# Altium schematic symbol library jlcpcb_2025_04_ferrites_extended_0805.schlib: 546 symbols (part 7 of 10)
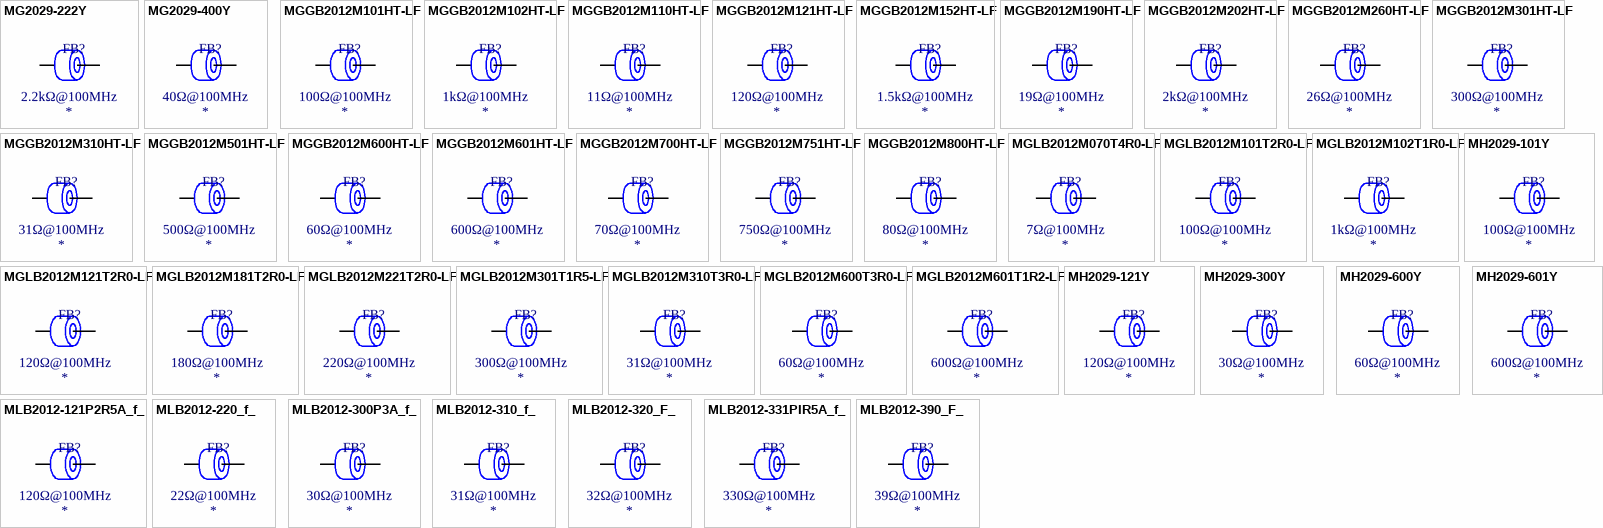
[diagram p19: symbols MG2029-222Y to MLB2012-390_F_]

## MGGB2012M700HT-LF
designator FB?  Impedance @ Frequency: 70Ω@100MHz
Ferrite, 70Ω@100MHz, ±25%, 0.08Ω, 1000mA, SMD 0805; Manufacturer: microgate; Manufacturer Part Number: MGGB2012M700HT-LF; Package Size: 0805; JLCPCB Basic Part: No; JLCPCB Part Number: C281171; Supplier 1: LCSC; Category: Ferrite Beads; Supplier Part Number 1: C281171; Tolerance: ±25%; Rated Current: 1000mA; DC Resistance: 0.08Ω; RoHS: Yes; ComponentLink1Description: Datasheet; ComponentLink1URL: https://wmsc.lcsc.com/wmsc/upload/file/pdf/v2/lcsc/2304140030_microgate-MGGB2012M700HT-LF_C281171.pdf; ComponentLink2Description: JLCPCB Part URL; ComponentLink2URL: https://jlcpcb.com/partdetail/C281171; ComponentLink3Description: LCSC Part URL; ComponentLink3URL: https://lcsc.com/product-detail/Ferrite-Beads_microgate-microgate-MGGB2012M700HT-LF_C281171.html
footprint FB-0805 (0805 (2012M) Ferrite)
pins: 1, 2

## MGGB2012M751HT-LF
designator FB?  Impedance @ Frequency: 750Ω@100MHz
Ferrite, 750Ω@100MHz, ±25%, 0.35Ω, 300mA, SMD 0805; Manufacturer: microgate; Manufacturer Part Number: MGGB2012M751HT-LF; Package Size: 0805; JLCPCB Basic Part: No; JLCPCB Part Number: C281172; Supplier 1: LCSC; Category: Ferrite Beads; Supplier Part Number 1: C281172; Tolerance: ±25%; Rated Current: 300mA; DC Resistance: 0.35Ω; RoHS: Yes; ComponentLink1Description: Datasheet; ComponentLink1URL: https://wmsc.lcsc.com/wmsc/upload/file/pdf/v2/lcsc/2304140030_microgate-MGGB2012M751HT-LF_C281172.pdf; ComponentLink2Description: JLCPCB Part URL; ComponentLink2URL: https://jlcpcb.com/partdetail/C281172; ComponentLink3Description: LCSC Part URL; ComponentLink3URL: https://lcsc.com/product-detail/Ferrite-Beads_microgate-microgate-MGGB2012M751HT-LF_C281172.html
footprint FB-0805 (0805 (2012M) Ferrite)
pins: 1, 2

## MGGB2012M800HT-LF
designator FB?  Impedance @ Frequency: 80Ω@100MHz
Ferrite, 80Ω@100MHz, ±25%, 0.1Ω, 1000mA, SMD 0805; Manufacturer: microgate; Manufacturer Part Number: MGGB2012M800HT-LF; Package Size: 0805; JLCPCB Basic Part: No; JLCPCB Part Number: C281173; Supplier 1: LCSC; Category: Ferrite Beads; Supplier Part Number 1: C281173; Tolerance: ±25%; Rated Current: 1000mA; DC Resistance: 0.1Ω; RoHS: Yes; ComponentLink1Description: Datasheet; ComponentLink1URL: https://wmsc.lcsc.com/wmsc/upload/file/pdf/v2/lcsc/2304140030_microgate-MGGB2012M800HT-LF_C281173.pdf; ComponentLink2Description: JLCPCB Part URL; ComponentLink2URL: https://jlcpcb.com/partdetail/C281173; ComponentLink3Description: LCSC Part URL; ComponentLink3URL: https://lcsc.com/product-detail/Ferrite-Beads_microgate-microgate-MGGB2012M800HT-LF_C281173.html
footprint FB-0805 (0805 (2012M) Ferrite)
pins: 1, 2

## MGLB2012M070T4R0-LF
designator FB?  Impedance @ Frequency: 7Ω@100MHz
Ferrite, 7Ω@100MHz, ±25%, 20mΩ, 4A, SMD 0805; Manufacturer: microgate; Manufacturer Part Number: MGLB2012M070T4R0-LF; Package Size: 0805; JLCPCB Basic Part: No; JLCPCB Part Number: C281210; Supplier 1: LCSC; Category: Ferrite Beads; Supplier Part Number 1: C281210; Tolerance: ±25%; Rated Current: 4A; DC Resistance: 20mΩ; RoHS: Yes; ComponentLink1Description: Datasheet; ComponentLink1URL: https://wmsc.lcsc.com/wmsc/upload/file/pdf/v2/lcsc/2304140030_microgate-MGLB2012M070T4R0-LF_C281210.pdf; ComponentLink2Description: JLCPCB Part URL; ComponentLink2URL: https://jlcpcb.com/partdetail/C281210; ComponentLink3Description: LCSC Part URL; ComponentLink3URL: https://lcsc.com/product-detail/Ferrite-Beads_microgate-microgate-MGLB2012M070T4R0-LF_C281210.html
footprint FB-0805 (0805 (2012M) Ferrite)
pins: 1, 2

## MGLB2012M101T2R0-LF
designator FB?  Impedance @ Frequency: 100Ω@100MHz
Ferrite, 100Ω@100MHz, ±25%, 80mΩ, 2A, SMD 0805; Manufacturer: microgate; Manufacturer Part Number: MGLB2012M101T2R0-LF; Package Size: 0805; JLCPCB Basic Part: No; JLCPCB Part Number: C281211; Supplier 1: LCSC; Category: Ferrite Beads; Supplier Part Number 1: C281211; Tolerance: ±25%; Rated Current: 2A; DC Resistance: 80mΩ; RoHS: Yes; ComponentLink1Description: Datasheet; ComponentLink1URL: https://wmsc.lcsc.com/wmsc/upload/file/pdf/v2/lcsc/2304140030_microgate-MGLB2012M101T2R0-LF_C281211.pdf; ComponentLink2Description: JLCPCB Part URL; ComponentLink2URL: https://jlcpcb.com/partdetail/C281211; ComponentLink3Description: LCSC Part URL; ComponentLink3URL: https://lcsc.com/product-detail/Ferrite-Beads_microgate-microgate-MGLB2012M101T2R0-LF_C281211.html
footprint FB-0805 (0805 (2012M) Ferrite)
pins: 1, 2

## MGLB2012M102T1R0-LF
designator FB?  Impedance @ Frequency: 1kΩ@100MHz
Ferrite, 1kΩ@100MHz, ±25%, 300mΩ, 1A, SMD 0805; Manufacturer: microgate; Manufacturer Part Number: MGLB2012M102T1R0-LF; Package Size: 0805; JLCPCB Basic Part: No; JLCPCB Part Number: C281212; Supplier 1: LCSC; Category: Ferrite Beads; Supplier Part Number 1: C281212; Tolerance: ±25%; Rated Current: 1A; DC Resistance: 300mΩ; RoHS: Yes; ComponentLink1Description: Datasheet; ComponentLink1URL: https://wmsc.lcsc.com/wmsc/upload/file/pdf/v2/lcsc/2304140030_microgate-MGLB2012M102T1R0-LF_C281212.pdf; ComponentLink2Description: JLCPCB Part URL; ComponentLink2URL: https://jlcpcb.com/partdetail/C281212; ComponentLink3Description: LCSC Part URL; ComponentLink3URL: https://lcsc.com/product-detail/Ferrite-Beads_microgate-microgate-MGLB2012M102T1R0-LF_C281212.html
footprint FB-0805 (0805 (2012M) Ferrite)
pins: 1, 2

## MGLB2012M121T2R0-LF
designator FB?  Impedance @ Frequency: 120Ω@100MHz
Ferrite, 120Ω@100MHz, ±25%, 100mΩ, 2A, SMD 0805; Manufacturer: microgate; Manufacturer Part Number: MGLB2012M121T2R0-LF; Package Size: 0805; JLCPCB Basic Part: No; JLCPCB Part Number: C281214; Supplier 1: LCSC; Category: Ferrite Beads; Supplier Part Number 1: C281214; Tolerance: ±25%; Rated Current: 2A; DC Resistance: 100mΩ; RoHS: Yes; ComponentLink1Description: Datasheet; ComponentLink1URL: https://wmsc.lcsc.com/wmsc/upload/file/pdf/v2/lcsc/2304140030_microgate-MGLB2012M121T2R0-LF_C281214.pdf; ComponentLink2Description: JLCPCB Part URL; ComponentLink2URL: https://jlcpcb.com/partdetail/C281214; ComponentLink3Description: LCSC Part URL; ComponentLink3URL: https://lcsc.com/product-detail/Ferrite-Beads_microgate-microgate-MGLB2012M121T2R0-LF_C281214.html
footprint FB-0805 (0805 (2012M) Ferrite)
pins: 1, 2

## MGLB2012M181T2R0-LF
designator FB?  Impedance @ Frequency: 180Ω@100MHz
Ferrite, 180Ω@100MHz, ±25%, 150mΩ, 2A, SMD 0805; Manufacturer: microgate; Manufacturer Part Number: MGLB2012M181T2R0-LF; Package Size: 0805; JLCPCB Basic Part: No; JLCPCB Part Number: C281215; Supplier 1: LCSC; Category: Ferrite Beads; Supplier Part Number 1: C281215; Tolerance: ±25%; Rated Current: 2A; DC Resistance: 150mΩ; RoHS: Yes; ComponentLink1Description: Datasheet; ComponentLink1URL: https://wmsc.lcsc.com/wmsc/upload/file/pdf/v2/lcsc/2304140030_microgate-MGLB2012M181T2R0-LF_C281215.pdf; ComponentLink2Description: JLCPCB Part URL; ComponentLink2URL: https://jlcpcb.com/partdetail/C281215; ComponentLink3Description: LCSC Part URL; ComponentLink3URL: https://lcsc.com/product-detail/Ferrite-Beads_microgate-microgate-MGLB2012M181T2R0-LF_C281215.html
footprint FB-0805 (0805 (2012M) Ferrite)
pins: 1, 2

## MGLB2012M221T2R0-LF
designator FB?  Impedance @ Frequency: 220Ω@100MHz
Ferrite, 220Ω@100MHz, ±25%, 170mΩ, 2A, SMD 0805; Manufacturer: microgate; Manufacturer Part Number: MGLB2012M221T2R0-LF; Package Size: 0805; JLCPCB Basic Part: No; JLCPCB Part Number: C281216; Supplier 1: LCSC; Category: Ferrite Beads; Supplier Part Number 1: C281216; Tolerance: ±25%; Rated Current: 2A; DC Resistance: 170mΩ; RoHS: Yes; ComponentLink1Description: Datasheet; ComponentLink1URL: https://wmsc.lcsc.com/wmsc/upload/file/pdf/v2/lcsc/2304140030_microgate-MGLB2012M221T2R0-LF_C281216.pdf; ComponentLink2Description: JLCPCB Part URL; ComponentLink2URL: https://jlcpcb.com/partdetail/C281216; ComponentLink3Description: LCSC Part URL; ComponentLink3URL: https://lcsc.com/product-detail/Ferrite-Beads_microgate-microgate-MGLB2012M221T2R0-LF_C281216.html
footprint FB-0805 (0805 (2012M) Ferrite)
pins: 1, 2

## MGLB2012M301T1R5-LF
designator FB?  Impedance @ Frequency: 300Ω@100MHz
Ferrite, 300Ω@100MHz, ±25%, 200mΩ, 1.5A, SMD 0805; Manufacturer: microgate; Manufacturer Part Number: MGLB2012M301T1R5-LF; Package Size: 0805; JLCPCB Basic Part: No; JLCPCB Part Number: C281217; Supplier 1: LCSC; Category: Ferrite Beads; Supplier Part Number 1: C281217; Tolerance: ±25%; Rated Current: 1.5A; DC Resistance: 200mΩ; RoHS: Yes; ComponentLink1Description: Datasheet; ComponentLink1URL: https://wmsc.lcsc.com/wmsc/upload/file/pdf/v2/lcsc/2304140030_microgate-MGLB2012M301T1R5-LF_C281217.pdf; ComponentLink2Description: JLCPCB Part URL; ComponentLink2URL: https://jlcpcb.com/partdetail/C281217; ComponentLink3Description: LCSC Part URL; ComponentLink3URL: https://lcsc.com/product-detail/Ferrite-Beads_microgate-microgate-MGLB2012M301T1R5-LF_C281217.html
footprint FB-0805 (0805 (2012M) Ferrite)
pins: 1, 2

## MGLB2012M310T3R0-LF
designator FB?  Impedance @ Frequency: 31Ω@100MHz
Ferrite, 31Ω@100MHz, ±25%, 30mΩ, 3A, SMD 0805; Manufacturer: microgate; Manufacturer Part Number: MGLB2012M310T3R0-LF; Package Size: 0805; JLCPCB Basic Part: No; JLCPCB Part Number: C281218; Supplier 1: LCSC; Category: Ferrite Beads; Supplier Part Number 1: C281218; Tolerance: ±25%; Rated Current: 3A; DC Resistance: 30mΩ; RoHS: Yes; ComponentLink1Description: Datasheet; ComponentLink1URL: https://wmsc.lcsc.com/wmsc/upload/file/pdf/v2/lcsc/2304140030_microgate-MGLB2012M310T3R0-LF_C281218.pdf; ComponentLink2Description: JLCPCB Part URL; ComponentLink2URL: https://jlcpcb.com/partdetail/C281218; ComponentLink3Description: LCSC Part URL; ComponentLink3URL: https://lcsc.com/product-detail/Ferrite-Beads_microgate-microgate-MGLB2012M310T3R0-LF_C281218.html
footprint FB-0805 (0805 (2012M) Ferrite)
pins: 1, 2

## MGLB2012M600T3R0-LF
designator FB?  Impedance @ Frequency: 60Ω@100MHz
Ferrite, 60Ω@100MHz, ±25%, 50mΩ, 3A, SMD 0805; Manufacturer: microgate; Manufacturer Part Number: MGLB2012M600T3R0-LF; Package Size: 0805; JLCPCB Basic Part: No; JLCPCB Part Number: C281219; Supplier 1: LCSC; Category: Ferrite Beads; Supplier Part Number 1: C281219; Tolerance: ±25%; Rated Current: 3A; DC Resistance: 50mΩ; RoHS: Yes; ComponentLink1Description: Datasheet; ComponentLink1URL: https://wmsc.lcsc.com/wmsc/upload/file/pdf/v2/lcsc/2304140030_microgate-MGLB2012M600T3R0-LF_C281219.pdf; ComponentLink2Description: JLCPCB Part URL; ComponentLink2URL: https://jlcpcb.com/partdetail/C281219; ComponentLink3Description: LCSC Part URL; ComponentLink3URL: https://lcsc.com/product-detail/Ferrite-Beads_microgate-microgate-MGLB2012M600T3R0-LF_C281219.html
footprint FB-0805 (0805 (2012M) Ferrite)
pins: 1, 2

## MGLB2012M601T1R2-LF
designator FB?  Impedance @ Frequency: 600Ω@100MHz
Ferrite, 600Ω@100MHz, ±25%, 250mΩ, 1.2A, SMD 0805; Manufacturer: microgate; Manufacturer Part Number: MGLB2012M601T1R2-LF; Package Size: 0805; JLCPCB Basic Part: No; JLCPCB Part Number: C281220; Supplier 1: LCSC; Category: Ferrite Beads; Supplier Part Number 1: C281220; Tolerance: ±25%; Rated Current: 1.2A; DC Resistance: 250mΩ; RoHS: Yes; ComponentLink1Description: Datasheet; ComponentLink1URL: https://wmsc.lcsc.com/wmsc/upload/file/pdf/v2/lcsc/2304140030_microgate-MGLB2012M601T1R2-LF_C281220.pdf; ComponentLink2Description: JLCPCB Part URL; ComponentLink2URL: https://jlcpcb.com/partdetail/C281220; ComponentLink3Description: LCSC Part URL; ComponentLink3URL: https://lcsc.com/product-detail/Ferrite-Beads_microgate-microgate-MGLB2012M601T1R2-LF_C281220.html
footprint FB-0805 (0805 (2012M) Ferrite)
pins: 1, 2

## MH2029-101Y
designator FB?  Impedance @ Frequency: 100Ω@100MHz
Ferrite, 100Ω@100MHz, ±25%, 100mΩ, 2A, SMD 0805; Manufacturer: BOURNS; Manufacturer Part Number: MH2029-101Y; Package Size: 0805; JLCPCB Basic Part: No; JLCPCB Part Number: C1533840; Supplier 1: LCSC; Category: Ferrite Beads; Supplier Part Number 1: C1533840; Tolerance: ±25%; Rated Current: 2A; DC Resistance: 100mΩ; RoHS: Yes; ComponentLink1Description: Datasheet; ComponentLink1URL: https://wmsc.lcsc.com/wmsc/upload/file/pdf/v2/lcsc/2304140030_BOURNS-MH2029-101Y_C1533840.pdf; ComponentLink2Description: JLCPCB Part URL; ComponentLink2URL: https://jlcpcb.com/partdetail/C1533840; ComponentLink3Description: LCSC Part URL; ComponentLink3URL: https://lcsc.com/product-detail/Ferrite-Beads_BOURNS-BOURNS-MH2029-101Y_C1533840.html
footprint FB-0805 (0805 (2012M) Ferrite)
pins: 1, 2

## MH2029-121Y
designator FB?  Impedance @ Frequency: 120Ω@100MHz
Ferrite, 120Ω@100MHz, ±25%, 100mΩ, 2A, SMD 0805; Manufacturer: BOURNS; Manufacturer Part Number: MH2029-121Y; Package Size: 0805; JLCPCB Basic Part: No; JLCPCB Part Number: C2661483; Supplier 1: LCSC; Category: Ferrite Beads; Supplier Part Number 1: C2661483; Tolerance: ±25%; Rated Current: 2A; DC Resistance: 100mΩ; RoHS: Yes; ComponentLink1Description: Datasheet; ComponentLink1URL: https://wmsc.lcsc.com/wmsc/upload/file/pdf/v2/lcsc/2304140030_BOURNS-MH2029-121Y_C2661483.pdf; ComponentLink2Description: JLCPCB Part URL; ComponentLink2URL: https://jlcpcb.com/partdetail/C2661483; ComponentLink3Description: LCSC Part URL; ComponentLink3URL: https://lcsc.com/product-detail/Ferrite-Beads_BOURNS-BOURNS-MH2029-121Y_C2661483.html
footprint FB-0805 (0805 (2012M) Ferrite)
pins: 1, 2

## MH2029-300Y
designator FB?  Impedance @ Frequency: 30Ω@100MHz
Ferrite, 30Ω@100MHz, ±25%, 25mΩ, 3A, SMD 0805; Manufacturer: BOURNS; Manufacturer Part Number: MH2029-300Y; Package Size: 0805; JLCPCB Basic Part: No; JLCPCB Part Number: C840593; Supplier 1: LCSC; Category: Ferrite Beads; Supplier Part Number 1: C840593; Tolerance: ±25%; Rated Current: 3A; DC Resistance: 25mΩ; RoHS: Yes; ComponentLink1Description: Datasheet; ComponentLink1URL: https://wmsc.lcsc.com/wmsc/upload/file/pdf/v2/lcsc/2304140030_BOURNS-MH2029-300Y_C840593.pdf; ComponentLink2Description: JLCPCB Part URL; ComponentLink2URL: https://jlcpcb.com/partdetail/C840593; ComponentLink3Description: LCSC Part URL; ComponentLink3URL: https://lcsc.com/product-detail/Ferrite-Beads_BOURNS-BOURNS-MH2029-300Y_C840593.html
footprint FB-0805 (0805 (2012M) Ferrite)
pins: 1, 2

## MH2029-600Y
designator FB?  Impedance @ Frequency: 60Ω@100MHz
Ferrite, 60Ω@100MHz, ±25%, 20mΩ, 5A, SMD 0805; Manufacturer: BOURNS; Manufacturer Part Number: MH2029-600Y; Package Size: 0805; JLCPCB Basic Part: No; JLCPCB Part Number: C780182; Supplier 1: LCSC; Category: Ferrite Beads; Supplier Part Number 1: C780182; Tolerance: ±25%; Rated Current: 5A; DC Resistance: 20mΩ; RoHS: Yes; ComponentLink1Description: Datasheet; ComponentLink1URL: https://wmsc.lcsc.com/wmsc/upload/file/pdf/v2/lcsc/2304140030_BOURNS-MH2029-600Y_C780182.pdf; ComponentLink2Description: JLCPCB Part URL; ComponentLink2URL: https://jlcpcb.com/partdetail/C780182; ComponentLink3Description: LCSC Part URL; ComponentLink3URL: https://lcsc.com/product-detail/Ferrite-Beads_BOURNS-BOURNS-MH2029-600Y_C780182.html
footprint FB-0805 (0805 (2012M) Ferrite)
pins: 1, 2

## MH2029-601Y
designator FB?  Impedance @ Frequency: 600Ω@100MHz
Ferrite, 600Ω@100MHz, ±25%, 200mΩ, 1A, SMD 0805; Manufacturer: BOURNS; Manufacturer Part Number: MH2029-601Y; Package Size: 0805; JLCPCB Basic Part: No; JLCPCB Part Number: C840592; Supplier 1: LCSC; Category: Ferrite Beads; Supplier Part Number 1: C840592; Tolerance: ±25%; Rated Current: 1A; DC Resistance: 200mΩ; RoHS: Yes; ComponentLink1Description: Datasheet; ComponentLink1URL: https://wmsc.lcsc.com/wmsc/upload/file/pdf/v2/lcsc/2304140030_BOURNS-MH2029-601Y_C840592.pdf; ComponentLink2Description: JLCPCB Part URL; ComponentLink2URL: https://jlcpcb.com/partdetail/C840592; ComponentLink3Description: LCSC Part URL; ComponentLink3URL: https://lcsc.com/product-detail/Ferrite-Beads_BOURNS-BOURNS-MH2029-601Y_C840592.html
footprint FB-0805 (0805 (2012M) Ferrite)
pins: 1, 2

## MLB2012-121P2R5A_f_
designator FB?  Impedance @ Frequency: 120Ω@100MHz
Ferrite, 120Ω@100MHz, ±25%, 100mΩ, 2.5A, SMD 0805; Manufacturer: Meled; Manufacturer Part Number: MLB2012-121P2R5A(f); Package Size: 0805; JLCPCB Basic Part: No; JLCPCB Part Number: C52557; Supplier 1: LCSC; Category: Ferrite Beads; Supplier Part Number 1: C52557; Tolerance: ±25%; Rated Current: 2.5A; DC Resistance: 100mΩ; RoHS: Yes; ComponentLink1Description: Datasheet; ComponentLink1URL: https://wmsc.lcsc.com/wmsc/upload/file/pdf/v2/lcsc/1809212031_MetalLions-MLB2012-121P2R5A-f_C52557.pdf; ComponentLink2Description: JLCPCB Part URL; ComponentLink2URL: https://jlcpcb.com/partdetail/C52557; ComponentLink3Description: LCSC Part URL; ComponentLink3URL: https://lcsc.com/product-detail/Ferrite-Beads_Meled-Meled-MLB2012-121P2R5Af_C52557.html
footprint FB-0805 (0805 (2012M) Ferrite)
pins: 1, 2

## MLB2012-220_f_
designator FB?  Impedance @ Frequency: 22Ω@100MHz
Ferrite, 22Ω@100MHz, ±25%, 50mΩ, 500mA, SMD 0805; Manufacturer: Meled; Manufacturer Part Number: MLB2012-220(f); Package Size: 0805; JLCPCB Basic Part: No; JLCPCB Part Number: C48148; Supplier 1: LCSC; Category: Ferrite Beads; Supplier Part Number 1: C48148; Tolerance: ±25%; Rated Current: 500mA; DC Resistance: 50mΩ; RoHS: Yes; ComponentLink1Description: Datasheet; ComponentLink1URL: https://wmsc.lcsc.com/wmsc/upload/file/pdf/v2/lcsc/1809171311_MetalLions-MLB2012-220-f_C48148.pdf; ComponentLink2Description: JLCPCB Part URL; ComponentLink2URL: https://jlcpcb.com/partdetail/C48148; ComponentLink3Description: LCSC Part URL; ComponentLink3URL: https://lcsc.com/product-detail/Ferrite-Beads_Meled-Meled-MLB2012-220f_C48148.html
footprint FB-0805 (0805 (2012M) Ferrite)
pins: 1, 2

## MLB2012-300P3A_f_
designator FB?  Impedance @ Frequency: 30Ω@100MHz
Ferrite, 30Ω@100MHz, ±25%, 20mΩ, 3A, SMD 0805; Manufacturer: Meled; Manufacturer Part Number: MLB2012-300P3A(f); Package Size: 0805; JLCPCB Basic Part: No; JLCPCB Part Number: C50503; Supplier 1: LCSC; Category: Ferrite Beads; Supplier Part Number 1: C50503; Tolerance: ±25%; Rated Current: 3A; DC Resistance: 20mΩ; RoHS: Yes; ComponentLink1Description: Datasheet; ComponentLink1URL: https://wmsc.lcsc.com/wmsc/upload/file/pdf/v2/lcsc/1809192323_MetalLions-MLB2012-300P3A-f_C50503.pdf; ComponentLink2Description: JLCPCB Part URL; ComponentLink2URL: https://jlcpcb.com/partdetail/C50503; ComponentLink3Description: LCSC Part URL; ComponentLink3URL: https://lcsc.com/product-detail/Ferrite-Beads_Meled-Meled-MLB2012-300P3Af_C50503.html
footprint FB-0805 (0805 (2012M) Ferrite)
pins: 1, 2

## MLB2012-310_f_
designator FB?  Impedance @ Frequency: 31Ω@100MHz
Ferrite, 31Ω@100MHz, ±25%, 50mΩ, 500mA, SMD 0805; Manufacturer: Meled; Manufacturer Part Number: MLB2012-310（f）; Package Size: 0805; JLCPCB Basic Part: No; JLCPCB Part Number: C40848; Supplier 1: LCSC; Category: Ferrite Beads; Supplier Part Number 1: C40848; Tolerance: ±25%; Rated Current: 500mA; DC Resistance: 50mΩ; RoHS: Yes; ComponentLink1Description: Datasheet; ComponentLink1URL: https://wmsc.lcsc.com/wmsc/upload/file/pdf/v2/lcsc/1809192011_MetalLions-MLB2012-310-f-_C40848.pdf; ComponentLink2Description: JLCPCB Part URL; ComponentLink2URL: https://jlcpcb.com/partdetail/C40848; ComponentLink3Description: LCSC Part URL; ComponentLink3URL: https://lcsc.com/product-detail/Ferrite-Beads_Meled-Meled-MLB2012-310%EF%BC%88f%EF%BC%89_C40848.html
footprint FB-0805 (0805 (2012M) Ferrite)
pins: 1, 2

## MLB2012-320_F_
designator FB?  Impedance @ Frequency: 32Ω@100MHz
Ferrite, 32Ω@100MHz, ±25%, 50mΩ, 500mA, SMD 0805; Manufacturer: Meled; Manufacturer Part Number: MLB2012-320(F); Package Size: 0805; JLCPCB Basic Part: No; JLCPCB Part Number: C24588; Supplier 1: LCSC; Category: Ferrite Beads; Supplier Part Number 1: C24588; Tolerance: ±25%; Rated Current: 500mA; DC Resistance: 50mΩ; RoHS: Yes; ComponentLink1Description: Datasheet; ComponentLink1URL: https://wmsc.lcsc.com/wmsc/upload/file/pdf/v2/lcsc/1810131812_MetalLions-MLB2012-320-F_C24588.pdf; ComponentLink2Description: JLCPCB Part URL; ComponentLink2URL: https://jlcpcb.com/partdetail/C24588; ComponentLink3Description: LCSC Part URL; ComponentLink3URL: https://lcsc.com/product-detail/Ferrite-Beads_Meled-Meled-MLB2012-320F_C24588.html
footprint FB-0805 (0805 (2012M) Ferrite)
pins: 1, 2

## MLB2012-331PIR5A_f_
designator FB?  Impedance @ Frequency: 330Ω@100MHz
Ferrite, 330Ω@100MHz, SMD 0805; Manufacturer: Meled; Manufacturer Part Number: MLB2012-331PIR5A(f); Package Size: 0805; JLCPCB Basic Part: No; JLCPCB Part Number: C47130; Supplier 1: LCSC; Category: Ferrite Beads; Supplier Part Number 1: C47130; RoHS: Yes; ComponentLink1Description: Datasheet; ComponentLink2Description: JLCPCB Part URL; ComponentLink2URL: https://jlcpcb.com/partdetail/C47130; ComponentLink3Description: LCSC Part URL; ComponentLink3URL: https://lcsc.com/product-detail/Ferrite-Beads_Meled-Meled-MLB2012-331PIR5Af_C47130.html
pins: 1, 2

## MLB2012-390_F_
designator FB?  Impedance @ Frequency: 39Ω@100MHz
Ferrite, 39Ω@100MHz, ±25%, 50mΩ, 500mA, SMD 0805; Manufacturer: Meled; Manufacturer Part Number: MLB2012-390(F); Package Size: 0805; JLCPCB Basic Part: No; JLCPCB Part Number: C70291; Supplier 1: LCSC; Category: Ferrite Beads; Supplier Part Number 1: C70291; Tolerance: ±25%; Rated Current: 500mA; DC Resistance: 50mΩ; RoHS: Yes; ComponentLink1Description: Datasheet; ComponentLink1URL: https://wmsc.lcsc.com/wmsc/upload/file/pdf/v2/lcsc/1809261040_MetalLions-MLB2012-390-F_C70291.pdf; ComponentLink2Description: JLCPCB Part URL; ComponentLink2URL: https://jlcpcb.com/partdetail/C70291; ComponentLink3Description: LCSC Part URL; ComponentLink3URL: https://lcsc.com/product-detail/Ferrite-Beads_Meled-Meled-MLB2012-390F-_C70291.html
footprint FB-0805 (0805 (2012M) Ferrite)
pins: 1, 2

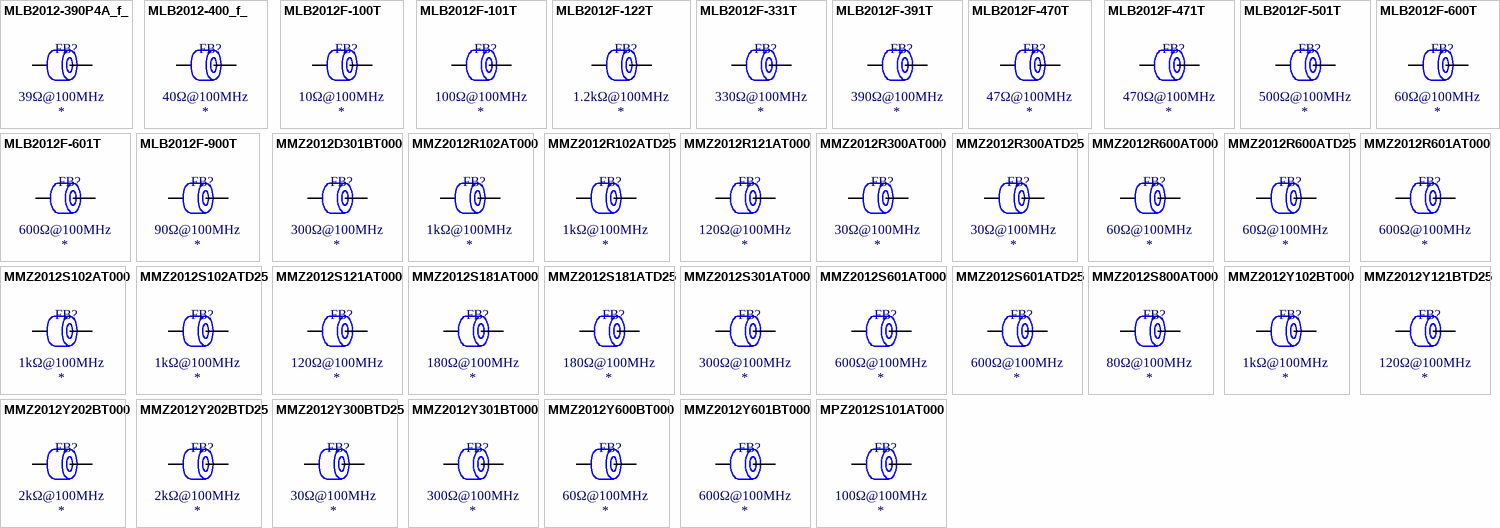
[diagram p9: symbols MLB2012-390P4A_f_ to MPZ2012S101AT000]

## MLB2012-390P4A_f_
designator FB?  Impedance @ Frequency: 39Ω@100MHz
Ferrite, 39Ω@100MHz, ±25%, 20mΩ, 4A, SMD 0805; Manufacturer: Meled; Manufacturer Part Number: MLB2012-390P4A(f); Package Size: 0805; JLCPCB Basic Part: No; JLCPCB Part Number: C61795; Supplier 1: LCSC; Category: Ferrite Beads; Supplier Part Number 1: C61795; Tolerance: ±25%; Rated Current: 4A; DC Resistance: 20mΩ; RoHS: Yes; ComponentLink1Description: Datasheet; ComponentLink1URL: https://wmsc.lcsc.com/wmsc/upload/file/pdf/v2/lcsc/1809231811_MetalLions-MLB2012-390P4A-f_C61795.pdf; ComponentLink2Description: JLCPCB Part URL; ComponentLink2URL: https://jlcpcb.com/partdetail/C61795; ComponentLink3Description: LCSC Part URL; ComponentLink3URL: https://lcsc.com/product-detail/Ferrite-Beads_Meled-Meled-MLB2012-390P4Af_C61795.html
footprint FB-0805 (0805 (2012M) Ferrite)
pins: 1, 2

## MLB2012-400_f_
designator FB?  Impedance @ Frequency: 40Ω@100MHz
Ferrite, 40Ω@100MHz, ±25%, 50mΩ, 600mA, SMD 0805; Manufacturer: Meled; Manufacturer Part Number: MLB2012-400(f); Package Size: 0805; JLCPCB Basic Part: No; JLCPCB Part Number: C53205; Supplier 1: LCSC; Category: Ferrite Beads; Supplier Part Number 1: C53205; Tolerance: ±25%; Rated Current: 600mA; DC Resistance: 50mΩ; RoHS: Yes; ComponentLink1Description: Datasheet; ComponentLink1URL: https://wmsc.lcsc.com/wmsc/upload/file/pdf/v2/lcsc/1809140022_MetalLions-MLB2012-400-f_C53205.pdf; ComponentLink2Description: JLCPCB Part URL; ComponentLink2URL: https://jlcpcb.com/partdetail/C53205; ComponentLink3Description: LCSC Part URL; ComponentLink3URL: https://lcsc.com/product-detail/Ferrite-Beads_Meled-Meled-MLB2012-400f_C53205.html
footprint FB-0805 (0805 (2012M) Ferrite)
pins: 1, 2

## MLB2012F-100T
designator FB?  Impedance @ Frequency: 10Ω@100MHz
Ferrite, 10Ω@100MHz, ±25%, 100mΩ, 900mA, SMD 0805; Manufacturer: Meled; Manufacturer Part Number: MLB2012F-100T; Package Size: 0805; JLCPCB Basic Part: No; JLCPCB Part Number: C2844576; Supplier 1: LCSC; Category: Ferrite Beads; Supplier Part Number 1: C2844576; Tolerance: ±25%; Rated Current: 900mA; DC Resistance: 100mΩ; RoHS: Yes; ComponentLink1Description: Datasheet; ComponentLink1URL: https://wmsc.lcsc.com/wmsc/upload/file/pdf/v2/lcsc/2306021143_MetalLions-MLB2012F-100T_C2844576.pdf; ComponentLink2Description: JLCPCB Part URL; ComponentLink2URL: https://jlcpcb.com/partdetail/C2844576; ComponentLink3Description: LCSC Part URL; ComponentLink3URL: https://lcsc.com/product-detail/Ferrite-Beads_MetalLions-MetalLions-MLB2012F-100T_C2844576.html
footprint FB-0805 (0805 (2012M) Ferrite)
pins: 1, 2

## MLB2012F-101T
designator FB?  Impedance @ Frequency: 100Ω@100MHz
Ferrite, 100Ω@100MHz, ±25%, 0.18Ω, 500mA, SMD 0805; Manufacturer: Meled; Manufacturer Part Number: MLB2012F-101T; Package Size: 0805; JLCPCB Basic Part: No; JLCPCB Part Number: C2844587; Supplier 1: LCSC; Category: Ferrite Beads; Supplier Part Number 1: C2844587; Tolerance: ±25%; Rated Current: 500mA; DC Resistance: 0.18Ω; RoHS: Yes; ComponentLink1Description: Datasheet; ComponentLink1URL: https://wmsc.lcsc.com/wmsc/upload/file/pdf/v2/lcsc/2306021144_MetalLions-MLB2012F-101T_C2844587.pdf; ComponentLink2Description: JLCPCB Part URL; ComponentLink2URL: https://jlcpcb.com/partdetail/C2844587; ComponentLink3Description: LCSC Part URL; ComponentLink3URL: https://lcsc.com/product-detail/Ferrite-Beads_Meled-Meled-MLB2012F-101T_C2844587.html
footprint FB-0805 (0805 (2012M) Ferrite)
pins: 1, 2

## MLB2012F-122T
designator FB?  Impedance @ Frequency: 1.2kΩ@100MHz
Ferrite, 1.2kΩ@100MHz, ±25%, 600mΩ, 100mA, SMD 0805; Manufacturer: Meled; Manufacturer Part Number: MLB2012F-122T; Package Size: 0805; JLCPCB Basic Part: No; JLCPCB Part Number: C2844601; Supplier 1: LCSC; Category: Ferrite Beads; Supplier Part Number 1: C2844601; Tolerance: ±25%; Rated Current: 100mA; DC Resistance: 600mΩ; RoHS: Yes; ComponentLink1Description: Datasheet; ComponentLink1URL: https://wmsc.lcsc.com/wmsc/upload/file/pdf/v2/lcsc/2306021144_MetalLions-MLB2012F-122T_C2844601.pdf; ComponentLink2Description: JLCPCB Part URL; ComponentLink2URL: https://jlcpcb.com/partdetail/C2844601; ComponentLink3Description: LCSC Part URL; ComponentLink3URL: https://lcsc.com/product-detail/Ferrite-Beads_MetalLions-MetalLions-MLB2012F-122T_C2844601.html
footprint FB-0805 (0805 (2012M) Ferrite)
pins: 1, 2

## MLB2012F-331T
designator FB?  Impedance @ Frequency: 330Ω@100MHz
Ferrite, 330Ω@100MHz, ±25%, SMD 0805; Manufacturer: Meled; Manufacturer Part Number: MLB2012F-331T; Package Size: 0805; JLCPCB Basic Part: No; JLCPCB Part Number: C2844593; Supplier 1: LCSC; Category: Ferrite Beads; Supplier Part Number 1: C2844593; Tolerance: ±25%; RoHS: Yes; ComponentLink1Description: Datasheet; ComponentLink1URL: https://wmsc.lcsc.com/wmsc/upload/file/pdf/v2/lcsc/2306021144_MetalLions-MLB2012F-331T_C2844593.pdf; ComponentLink2Description: JLCPCB Part URL; ComponentLink2URL: https://jlcpcb.com/partdetail/C2844593; ComponentLink3Description: LCSC Part URL; ComponentLink3URL: https://lcsc.com/product-detail/Ferrite-Beads_MetalLions-MetalLions-MLB2012F-331T_C2844593.html
pins: 1, 2

## MLB2012F-391T
designator FB?  Impedance @ Frequency: 390Ω@100MHz
Ferrite, 390Ω@100MHz, ±25%, SMD 0805; Manufacturer: Meled; Manufacturer Part Number: MLB2012F-391T; Package Size: 0805; JLCPCB Basic Part: No; JLCPCB Part Number: C2844594; Supplier 1: LCSC; Category: Ferrite Beads; Supplier Part Number 1: C2844594; Tolerance: ±25%; RoHS: Yes; ComponentLink1Description: Datasheet; ComponentLink1URL: https://wmsc.lcsc.com/wmsc/upload/file/pdf/v2/lcsc/2306021144_MetalLions-MLB2012F-391T_C2844594.pdf; ComponentLink2Description: JLCPCB Part URL; ComponentLink2URL: https://jlcpcb.com/partdetail/C2844594; ComponentLink3Description: LCSC Part URL; ComponentLink3URL: https://lcsc.com/product-detail/Ferrite-Beads_MetalLions-MetalLions-MLB2012F-391T_C2844594.html
pins: 1, 2

## MLB2012F-470T
designator FB?  Impedance @ Frequency: 47Ω@100MHz
Ferrite, 47Ω@100MHz, ±25%, 150mΩ, 900mA, SMD 0805; Manufacturer: Meled; Manufacturer Part Number: MLB2012F-470T; Package Size: 0805; JLCPCB Basic Part: No; JLCPCB Part Number: C2844581; Supplier 1: LCSC; Category: Ferrite Beads; Supplier Part Number 1: C2844581; Tolerance: ±25%; Rated Current: 900mA; DC Resistance: 150mΩ; RoHS: Yes; ComponentLink1Description: Datasheet; ComponentLink1URL: https://wmsc.lcsc.com/wmsc/upload/file/pdf/v2/lcsc/2306021143_MetalLions-MLB2012F-470T_C2844581.pdf; ComponentLink2Description: JLCPCB Part URL; ComponentLink2URL: https://jlcpcb.com/partdetail/C2844581; ComponentLink3Description: LCSC Part URL; ComponentLink3URL: https://lcsc.com/product-detail/Ferrite-Beads_MetalLions-MetalLions-MLB2012F-470T_C2844581.html
footprint FB-0805 (0805 (2012M) Ferrite)
pins: 1, 2

## MLB2012F-471T
designator FB?  Impedance @ Frequency: 470Ω@100MHz
Ferrite, 470Ω@100MHz, ±25%, 0.35Ω, 300mA, SMD 0805; Manufacturer: Meled; Manufacturer Part Number: MLB2012F-471T; Package Size: 0805; JLCPCB Basic Part: No; JLCPCB Part Number: C2844596; Supplier 1: LCSC; Category: Ferrite Beads; Supplier Part Number 1: C2844596; Tolerance: ±25%; Rated Current: 300mA; DC Resistance: 0.35Ω; RoHS: Yes; ComponentLink1Description: Datasheet; ComponentLink1URL: https://wmsc.lcsc.com/wmsc/upload/file/pdf/v2/lcsc/2306021144_MetalLions-MLB2012F-471T_C2844596.pdf; ComponentLink2Description: JLCPCB Part URL; ComponentLink2URL: https://jlcpcb.com/partdetail/C2844596; ComponentLink3Description: LCSC Part URL; ComponentLink3URL: https://lcsc.com/product-detail/Ferrite-Beads_MetalLions-MetalLions-MLB2012F-471T_C2844596.html
footprint FB-0805 (0805 (2012M) Ferrite)
pins: 1, 2

## MLB2012F-501T
designator FB?  Impedance @ Frequency: 500Ω@100MHz
Ferrite, 500Ω@100MHz, ±25%, SMD 0805; Manufacturer: Meled; Manufacturer Part Number: MLB2012F-501T; Package Size: 0805; JLCPCB Basic Part: No; JLCPCB Part Number: C2844597; Supplier 1: LCSC; Category: Ferrite Beads; Supplier Part Number 1: C2844597; Tolerance: ±25%; RoHS: Yes; ComponentLink1Description: Datasheet; ComponentLink1URL: https://wmsc.lcsc.com/wmsc/upload/file/pdf/v2/lcsc/2306021144_MetalLions-MLB2012F-501T_C2844597.pdf; ComponentLink2Description: JLCPCB Part URL; ComponentLink2URL: https://jlcpcb.com/partdetail/C2844597; ComponentLink3Description: LCSC Part URL; ComponentLink3URL: https://lcsc.com/product-detail/Ferrite-Beads_MetalLions-MetalLions-MLB2012F-501T_C2844597.html
pins: 1, 2

## MLB2012F-600T
designator FB?  Impedance @ Frequency: 60Ω@100MHz
Ferrite, 60Ω@100MHz, ±25%, 150mΩ, 900mA, SMD 0805; Manufacturer: Meled; Manufacturer Part Number: MLB2012F-600T; Package Size: 0805; JLCPCB Basic Part: No; JLCPCB Part Number: C2844582; Supplier 1: LCSC; Category: Ferrite Beads; Supplier Part Number 1: C2844582; Tolerance: ±25%; Rated Current: 900mA; DC Resistance: 150mΩ; RoHS: Yes; ComponentLink1Description: Datasheet; ComponentLink1URL: https://wmsc.lcsc.com/wmsc/upload/file/pdf/v2/lcsc/2306021144_MetalLions-MLB2012F-600T_C2844582.pdf; ComponentLink2Description: JLCPCB Part URL; ComponentLink2URL: https://jlcpcb.com/partdetail/C2844582; ComponentLink3Description: LCSC Part URL; ComponentLink3URL: https://lcsc.com/product-detail/Ferrite-Beads_MetalLions-MetalLions-MLB2012F-600T_C2844582.html
footprint FB-0805 (0805 (2012M) Ferrite)
pins: 1, 2

## MLB2012F-601T
designator FB?  Impedance @ Frequency: 600Ω@100MHz
Ferrite, 600Ω@100MHz, ±25%, 350mΩ, 300mA, SMD 0805; Manufacturer: Meled; Manufacturer Part Number: MLB2012F-601T; Package Size: 0805; JLCPCB Basic Part: No; JLCPCB Part Number: C2844598; Supplier 1: LCSC; Category: Ferrite Beads; Supplier Part Number 1: C2844598; Tolerance: ±25%; Rated Current: 300mA; DC Resistance: 350mΩ; RoHS: Yes; ComponentLink1Description: Datasheet; ComponentLink1URL: https://wmsc.lcsc.com/wmsc/upload/file/pdf/v2/lcsc/2306021144_MetalLions-MLB2012F-601T_C2844598.pdf; ComponentLink2Description: JLCPCB Part URL; ComponentLink2URL: https://jlcpcb.com/partdetail/C2844598; ComponentLink3Description: LCSC Part URL; ComponentLink3URL: https://lcsc.com/product-detail/Ferrite-Beads_MetalLions-MetalLions-MLB2012F-601T_C2844598.html
footprint FB-0805 (0805 (2012M) Ferrite)
pins: 1, 2

## MLB2012F-900T
designator FB?  Impedance @ Frequency: 90Ω@100MHz
Ferrite, 90Ω@100MHz, ±25%, SMD 0805; Manufacturer: Meled; Manufacturer Part Number: MLB2012F-900T; Package Size: 0805; JLCPCB Basic Part: No; JLCPCB Part Number: C2844586; Supplier 1: LCSC; Category: Ferrite Beads; Supplier Part Number 1: C2844586; Tolerance: ±25%; RoHS: Yes; ComponentLink1Description: Datasheet; ComponentLink1URL: https://wmsc.lcsc.com/wmsc/upload/file/pdf/v2/lcsc/2306021144_MetalLions-MLB2012F-900T_C2844586.pdf; ComponentLink2Description: JLCPCB Part URL; ComponentLink2URL: https://jlcpcb.com/partdetail/C2844586; ComponentLink3Description: LCSC Part URL; ComponentLink3URL: https://lcsc.com/product-detail/Ferrite-Beads_MetalLions-MetalLions-MLB2012F-900T_C2844586.html
pins: 1, 2

## MMZ2012D301BT000
designator FB?  Impedance @ Frequency: 300Ω@100MHz
Ferrite, 300Ω@100MHz, ±25%, 500mΩ, 400mA, SMD 0805; Manufacturer: TDK; Manufacturer Part Number: MMZ2012D301BT000; Package Size: 0805; JLCPCB Basic Part: No; JLCPCB Part Number: C275461; Supplier 1: LCSC; Category: Ferrite Beads; Supplier Part Number 1: C275461; Tolerance: ±25%; Rated Current: 400mA; DC Resistance: 500mΩ; RoHS: Yes; ComponentLink1Description: Datasheet; ComponentLink1URL: https://wmsc.lcsc.com/wmsc/upload/file/pdf/v2/lcsc/2304140030_TDK-MMZ2012D301BT000_C275461.pdf; ComponentLink2Description: JLCPCB Part URL; ComponentLink2URL: https://jlcpcb.com/partdetail/C275461; ComponentLink3Description: LCSC Part URL; ComponentLink3URL: https://lcsc.com/product-detail/Ferrite-Beads_TDK-TDK-MMZ2012D301BT000_C275461.html
footprint FB-0805 (0805 (2012M) Ferrite)
pins: 1, 2

## MMZ2012R102AT000
designator FB?  Impedance @ Frequency: 1kΩ@100MHz
Ferrite, 1kΩ@100MHz, ±25%, 300mΩ, 500mA, SMD 0805; Manufacturer: TDK; Manufacturer Part Number: MMZ2012R102AT000; Package Size: 0805; JLCPCB Basic Part: No; JLCPCB Part Number: C275462; Supplier 1: LCSC; Category: Ferrite Beads; Supplier Part Number 1: C275462; Tolerance: ±25%; Rated Current: 500mA; DC Resistance: 300mΩ; RoHS: Yes; ComponentLink1Description: Datasheet; ComponentLink1URL: https://wmsc.lcsc.com/wmsc/upload/file/pdf/v2/lcsc/2304140030_TDK-MMZ2012R102AT000_C275462.pdf; ComponentLink2Description: JLCPCB Part URL; ComponentLink2URL: https://jlcpcb.com/partdetail/C275462; ComponentLink3Description: LCSC Part URL; ComponentLink3URL: https://lcsc.com/product-detail/Ferrite-Beads_TDK-TDK-MMZ2012R102AT000_C275462.html
footprint FB-0805 (0805 (2012M) Ferrite)
pins: 1, 2

## MMZ2012R102ATD25
designator FB?  Impedance @ Frequency: 1kΩ@100MHz
Ferrite, 1kΩ@100MHz, 300mΩ, 500mA, SMD 0805; Manufacturer: TDK; Manufacturer Part Number: MMZ2012R102ATD25; Package Size: 0805; JLCPCB Basic Part: No; JLCPCB Part Number: C307765; Supplier 1: LCSC; Category: Ferrite Beads; Supplier Part Number 1: C307765; Rated Current: 500mA; DC Resistance: 300mΩ; RoHS: Yes; ComponentLink1Description: Datasheet; ComponentLink1URL: https://wmsc.lcsc.com/wmsc/upload/file/pdf/v2/lcsc/2401161221_TDK-MMZ2012R102ATD25_C307765.pdf; ComponentLink2Description: JLCPCB Part URL; ComponentLink2URL: https://jlcpcb.com/partdetail/C307765; ComponentLink3Description: LCSC Part URL; ComponentLink3URL: https://lcsc.com/product-detail/Ferrite-Beads_TDK-TDK-MMZ2012R102ATD25_C307765.html
pins: 1, 2

## MMZ2012R121AT000
designator FB?  Impedance @ Frequency: 120Ω@100MHz
Ferrite, 120Ω@100MHz, ±25%, 120mΩ, 800mA, SMD 0805; Manufacturer: TDK; Manufacturer Part Number: MMZ2012R121AT000; Package Size: 0805; JLCPCB Basic Part: No; JLCPCB Part Number: C275463; Supplier 1: LCSC; Category: Ferrite Beads; Supplier Part Number 1: C275463; Tolerance: ±25%; Rated Current: 800mA; DC Resistance: 120mΩ; RoHS: Yes; ComponentLink1Description: Datasheet; ComponentLink1URL: https://wmsc.lcsc.com/wmsc/upload/file/pdf/v2/lcsc/2304140030_TDK-MMZ2012R121AT000_C275463.pdf; ComponentLink2Description: JLCPCB Part URL; ComponentLink2URL: https://jlcpcb.com/partdetail/C275463; ComponentLink3Description: LCSC Part URL; ComponentLink3URL: https://lcsc.com/product-detail/Ferrite-Beads_TDK-TDK-MMZ2012R121AT000_C275463.html
footprint FB-0805 (0805 (2012M) Ferrite)
pins: 1, 2

## MMZ2012R300AT000
designator FB?  Impedance @ Frequency: 30Ω@100MHz
Ferrite, 30Ω@100MHz, ±25%, 50mΩ, 1.5A, SMD 0805; Manufacturer: TDK; Manufacturer Part Number: MMZ2012R300AT000; Package Size: 0805; JLCPCB Basic Part: No; JLCPCB Part Number: C136226; Supplier 1: LCSC; Category: Ferrite Beads; Supplier Part Number 1: C136226; Tolerance: ±25%; Rated Current: 1.5A; DC Resistance: 50mΩ; RoHS: Yes; ComponentLink1Description: Datasheet; ComponentLink1URL: https://wmsc.lcsc.com/wmsc/upload/file/pdf/v2/lcsc/1810132020_TDK-MMZ2012R300AT000_C136226.pdf; ComponentLink2Description: JLCPCB Part URL; ComponentLink2URL: https://jlcpcb.com/partdetail/C136226; ComponentLink3Description: LCSC Part URL; ComponentLink3URL: https://lcsc.com/product-detail/Ferrite-Beads_TDK-TDK-MMZ2012R300AT000_C136226.html
footprint FB-0805 (0805 (2012M) Ferrite)
pins: 1, 2

## MMZ2012R300ATD25
designator FB?  Impedance @ Frequency: 30Ω@100MHz
Ferrite, 30Ω@100MHz, ±25%, 50mΩ, 1.5A, SMD 0805; Manufacturer: TDK; Manufacturer Part Number: MMZ2012R300ATD25; Package Size: 0805; JLCPCB Basic Part: No; JLCPCB Part Number: C2661714; Supplier 1: LCSC; Category: Ferrite Beads; Supplier Part Number 1: C2661714; Tolerance: ±25%; Rated Current: 1.5A; DC Resistance: 50mΩ; RoHS: Yes; ComponentLink1Description: Datasheet; ComponentLink1URL: https://wmsc.lcsc.com/wmsc/upload/file/pdf/v2/lcsc/2304140030_TDK-MMZ2012R300ATD25_C2661714.pdf; ComponentLink2Description: JLCPCB Part URL; ComponentLink2URL: https://jlcpcb.com/partdetail/C2661714; ComponentLink3Description: LCSC Part URL; ComponentLink3URL: https://lcsc.com/product-detail/Ferrite-Beads_TDK-TDK-MMZ2012R300ATD25_C2661714.html
footprint FB-0805 (0805 (2012M) Ferrite)
pins: 1, 2

## MMZ2012R600AT000
designator FB?  Impedance @ Frequency: 60Ω@100MHz
Ferrite, 60Ω@100MHz, ±25%, 100mΩ, 1A, SMD 0805; Manufacturer: TDK; Manufacturer Part Number: MMZ2012R600AT000; Package Size: 0805; JLCPCB Basic Part: No; JLCPCB Part Number: C275466; Supplier 1: LCSC; Category: Ferrite Beads; Supplier Part Number 1: C275466; Tolerance: ±25%; Rated Current: 1A; DC Resistance: 100mΩ; RoHS: Yes; ComponentLink1Description: Datasheet; ComponentLink1URL: https://wmsc.lcsc.com/wmsc/upload/file/pdf/v2/lcsc/2304140030_TDK-MMZ2012R600AT000_C275466.pdf; ComponentLink2Description: JLCPCB Part URL; ComponentLink2URL: https://jlcpcb.com/partdetail/C275466; ComponentLink3Description: LCSC Part URL; ComponentLink3URL: https://lcsc.com/product-detail/Ferrite-Beads_TDK-TDK-MMZ2012R600AT000_C275466.html
footprint FB-0805 (0805 (2012M) Ferrite)
pins: 1, 2

## MMZ2012R600ATD25
designator FB?  Impedance @ Frequency: 60Ω@100MHz
Ferrite, 60Ω@100MHz, ±25%, 100mΩ, 1A, SMD 0805; Manufacturer: TDK; Manufacturer Part Number: MMZ2012R600ATD25; Package Size: 0805; JLCPCB Basic Part: No; JLCPCB Part Number: C307766; Supplier 1: LCSC; Category: Ferrite Beads; Supplier Part Number 1: C307766; Tolerance: ±25%; Rated Current: 1A; DC Resistance: 100mΩ; RoHS: Yes; ComponentLink1Description: Datasheet; ComponentLink1URL: https://wmsc.lcsc.com/wmsc/upload/file/pdf/v2/lcsc/2304140030_TDK-MMZ2012R600ATD25_C307766.pdf; ComponentLink2Description: JLCPCB Part URL; ComponentLink2URL: https://jlcpcb.com/partdetail/C307766; ComponentLink3Description: LCSC Part URL; ComponentLink3URL: https://lcsc.com/product-detail/Ferrite-Beads_TDK-TDK-MMZ2012R600ATD25_C307766.html
footprint FB-0805 (0805 (2012M) Ferrite)
pins: 1, 2

## MMZ2012R601AT000
designator FB?  Impedance @ Frequency: 600Ω@100MHz
Ferrite, 600Ω@100MHz, ±25%, 200mΩ, 500mA, SMD 0805; Manufacturer: TDK; Manufacturer Part Number: MMZ2012R601AT000; Package Size: 0805; JLCPCB Basic Part: No; JLCPCB Part Number: C275467; Supplier 1: LCSC; Category: Ferrite Beads; Supplier Part Number 1: C275467; Tolerance: ±25%; Rated Current: 500mA; DC Resistance: 200mΩ; RoHS: Yes; ComponentLink1Description: Datasheet; ComponentLink1URL: https://wmsc.lcsc.com/wmsc/upload/file/pdf/v2/lcsc/1810132021_TDK-MMZ2012R601AT000_C275467.pdf; ComponentLink2Description: JLCPCB Part URL; ComponentLink2URL: https://jlcpcb.com/partdetail/C275467; ComponentLink3Description: LCSC Part URL; ComponentLink3URL: https://lcsc.com/product-detail/Ferrite-Beads_TDK-TDK-MMZ2012R601AT000_C275467.html
footprint FB-0805 (0805 (2012M) Ferrite)
pins: 1, 2

## MMZ2012S102AT000
designator FB?  Impedance @ Frequency: 1kΩ@100MHz
Ferrite, 1kΩ@100MHz, ±25%, 350mΩ, 500mA, SMD 0805; Manufacturer: TDK; Manufacturer Part Number: MMZ2012S102AT000; Package Size: 0805; JLCPCB Basic Part: No; JLCPCB Part Number: C275468; Supplier 1: LCSC; Category: Ferrite Beads; Supplier Part Number 1: C275468; Tolerance: ±25%; Rated Current: 500mA; DC Resistance: 350mΩ; RoHS: Yes; ComponentLink1Description: Datasheet; ComponentLink1URL: https://wmsc.lcsc.com/wmsc/upload/file/pdf/v2/lcsc/2304140030_TDK-MMZ2012S102AT000_C275468.pdf; ComponentLink2Description: JLCPCB Part URL; ComponentLink2URL: https://jlcpcb.com/partdetail/C275468; ComponentLink3Description: LCSC Part URL; ComponentLink3URL: https://lcsc.com/product-detail/Ferrite-Beads_TDK-TDK-MMZ2012S102AT000_C275468.html
footprint FB-0805 (0805 (2012M) Ferrite)
pins: 1, 2

## MMZ2012S102ATD25
designator FB?  Impedance @ Frequency: 1kΩ@100MHz
Ferrite, 1kΩ@100MHz, ±25%, 350mΩ, 500mA, SMD 0805; Manufacturer: TDK; Manufacturer Part Number: MMZ2012S102ATD25; Package Size: 0805; JLCPCB Basic Part: No; JLCPCB Part Number: C502000; Supplier 1: LCSC; Category: Ferrite Beads; Supplier Part Number 1: C502000; Tolerance: ±25%; Rated Current: 500mA; DC Resistance: 350mΩ; RoHS: Yes; ComponentLink1Description: Datasheet; ComponentLink1URL: https://wmsc.lcsc.com/wmsc/upload/file/pdf/v2/lcsc/2005111632_TDK-MMZ2012S102ATD25_C502000.pdf; ComponentLink2Description: JLCPCB Part URL; ComponentLink2URL: https://jlcpcb.com/partdetail/C502000; ComponentLink3Description: LCSC Part URL; ComponentLink3URL: https://lcsc.com/product-detail/Ferrite-Beads_TDK-TDK-MMZ2012S102ATD25_C502000.html
footprint FB-0805 (0805 (2012M) Ferrite)
pins: 1, 2

## MMZ2012S121AT000
designator FB?  Impedance @ Frequency: 120Ω@100MHz
Ferrite, 120Ω@100MHz, ±25%, 150mΩ, 800mA, SMD 0805; Manufacturer: TDK; Manufacturer Part Number: MMZ2012S121AT000; Package Size: 0805; JLCPCB Basic Part: No; JLCPCB Part Number: C76809; Supplier 1: LCSC; Category: Ferrite Beads; Supplier Part Number 1: C76809; Tolerance: ±25%; Rated Current: 800mA; DC Resistance: 150mΩ; RoHS: Yes; ComponentLink1Description: Datasheet; ComponentLink1URL: https://wmsc.lcsc.com/wmsc/upload/file/pdf/v2/lcsc/2304140030_TDK-MMZ2012S121AT000_C76809.pdf; ComponentLink2Description: JLCPCB Part URL; ComponentLink2URL: https://jlcpcb.com/partdetail/C76809; ComponentLink3Description: LCSC Part URL; ComponentLink3URL: https://lcsc.com/product-detail/Ferrite-Beads_TDK-TDK-MMZ2012S121AT000_C76809.html
footprint FB-0805 (0805 (2012M) Ferrite)
pins: 1, 2

## MMZ2012S181AT000
designator FB?  Impedance @ Frequency: 180Ω@100MHz
Ferrite, 180Ω@100MHz, ±25%, 150mΩ, 600mA, SMD 0805; Manufacturer: TDK; Manufacturer Part Number: MMZ2012S181AT000; Package Size: 0805; JLCPCB Basic Part: No; JLCPCB Part Number: C15015; Supplier 1: LCSC; Category: Ferrite Beads; Supplier Part Number 1: C15015; Tolerance: ±25%; Rated Current: 600mA; DC Resistance: 150mΩ; RoHS: Yes; ComponentLink1Description: Datasheet; ComponentLink1URL: https://wmsc.lcsc.com/wmsc/upload/file/pdf/v2/lcsc/2304140030_TDK-MMZ2012S181AT000_C15015.pdf; ComponentLink2Description: JLCPCB Part URL; ComponentLink2URL: https://jlcpcb.com/partdetail/C15015; ComponentLink3Description: LCSC Part URL; ComponentLink3URL: https://lcsc.com/product-detail/Ferrite-Beads_TDK-TDK-MMZ2012S181AT000_C15015.html
footprint FB-0805 (0805 (2012M) Ferrite)
pins: 1, 2

## MMZ2012S181ATD25
designator FB?  Impedance @ Frequency: 180Ω@100MHz
Ferrite, 180Ω@100MHz, ±25%, 150mΩ, 600mA, SMD 0805; Manufacturer: TDK; Manufacturer Part Number: MMZ2012S181ATD25; Package Size: 0805; JLCPCB Basic Part: No; JLCPCB Part Number: C360717; Supplier 1: LCSC; Category: Ferrite Beads; Supplier Part Number 1: C360717; Tolerance: ±25%; Rated Current: 600mA; DC Resistance: 150mΩ; RoHS: Yes; ComponentLink1Description: Datasheet; ComponentLink1URL: https://wmsc.lcsc.com/wmsc/upload/file/pdf/v2/lcsc/1912111437_TDK-MMZ2012S181ATD25_C360717.pdf; ComponentLink2Description: JLCPCB Part URL; ComponentLink2URL: https://jlcpcb.com/partdetail/C360717; ComponentLink3Description: LCSC Part URL; ComponentLink3URL: https://lcsc.com/product-detail/Ferrite-Beads_TDK-TDK-MMZ2012S181ATD25_C360717.html
footprint FB-0805 (0805 (2012M) Ferrite)
pins: 1, 2

## MMZ2012S301AT000
designator FB?  Impedance @ Frequency: 300Ω@100MHz
Ferrite, 300Ω@100MHz, ±25%, 200mΩ, 600mA, SMD 0805; Manufacturer: TDK; Manufacturer Part Number: MMZ2012S301AT000; Package Size: 0805; JLCPCB Basic Part: No; JLCPCB Part Number: C275470; Supplier 1: LCSC; Category: Ferrite Beads; Supplier Part Number 1: C275470; Tolerance: ±25%; Rated Current: 600mA; DC Resistance: 200mΩ; RoHS: Yes; ComponentLink1Description: Datasheet; ComponentLink1URL: https://wmsc.lcsc.com/wmsc/upload/file/pdf/v2/lcsc/2304140030_TDK-MMZ2012S301AT000_C275470.pdf; ComponentLink2Description: JLCPCB Part URL; ComponentLink2URL: https://jlcpcb.com/partdetail/C275470; ComponentLink3Description: LCSC Part URL; ComponentLink3URL: https://lcsc.com/product-detail/Ferrite-Beads_TDK-TDK-MMZ2012S301AT000_C275470.html
footprint FB-0805 (0805 (2012M) Ferrite)
pins: 1, 2

## MMZ2012S601AT000
designator FB?  Impedance @ Frequency: 600Ω@100MHz
Ferrite, 600Ω@100MHz, ±25%, 300mΩ, 500mA, SMD 0805; Manufacturer: TDK; Manufacturer Part Number: MMZ2012S601AT000; Package Size: 0805; JLCPCB Basic Part: No; JLCPCB Part Number: C15014; Supplier 1: LCSC; Category: Ferrite Beads; Supplier Part Number 1: C15014; Tolerance: ±25%; Rated Current: 500mA; DC Resistance: 300mΩ; RoHS: Yes; ComponentLink1Description: Datasheet; ComponentLink1URL: https://wmsc.lcsc.com/wmsc/upload/file/pdf/v2/lcsc/2304140030_TDK-MMZ2012S601AT000_C15014.pdf; ComponentLink2Description: JLCPCB Part URL; ComponentLink2URL: https://jlcpcb.com/partdetail/C15014; ComponentLink3Description: LCSC Part URL; ComponentLink3URL: https://lcsc.com/product-detail/Ferrite-Beads_TDK-TDK-MMZ2012S601AT000_C15014.html
footprint FB-0805 (0805 (2012M) Ferrite)
pins: 1, 2

## MMZ2012S601ATD25
designator FB?  Impedance @ Frequency: 600Ω@100MHz
Ferrite, 600Ω@100MHz, ±25%, 300mΩ, 500mA, SMD 0805; Manufacturer: TDK; Manufacturer Part Number: MMZ2012S601ATD25; Package Size: 0805; JLCPCB Basic Part: No; JLCPCB Part Number: C2661633; Supplier 1: LCSC; Category: Ferrite Beads; Supplier Part Number 1: C2661633; Tolerance: ±25%; Rated Current: 500mA; DC Resistance: 300mΩ; RoHS: Yes; ComponentLink1Description: Datasheet; ComponentLink1URL: https://wmsc.lcsc.com/wmsc/upload/file/pdf/v2/lcsc/2304140030_TDK-MMZ2012S601ATD25_C2661633.pdf; ComponentLink2Description: JLCPCB Part URL; ComponentLink2URL: https://jlcpcb.com/partdetail/C2661633; ComponentLink3Description: LCSC Part URL; ComponentLink3URL: https://lcsc.com/product-detail/Ferrite-Beads_TDK-TDK-MMZ2012S601ATD25_C2661633.html
footprint FB-0805 (0805 (2012M) Ferrite)
pins: 1, 2

## MMZ2012S800AT000
designator FB?  Impedance @ Frequency: 80Ω@100MHz
Ferrite, 80Ω@100MHz, ±25%, 100mΩ, 800mA, SMD 0805; Manufacturer: TDK; Manufacturer Part Number: MMZ2012S800AT000; Package Size: 0805; JLCPCB Basic Part: No; JLCPCB Part Number: C275471; Supplier 1: LCSC; Category: Ferrite Beads; Supplier Part Number 1: C275471; Tolerance: ±25%; Rated Current: 800mA; DC Resistance: 100mΩ; RoHS: Yes; ComponentLink1Description: Datasheet; ComponentLink1URL: https://wmsc.lcsc.com/wmsc/upload/file/pdf/v2/lcsc/2304140030_TDK-MMZ2012S800AT000_C275471.pdf; ComponentLink2Description: JLCPCB Part URL; ComponentLink2URL: https://jlcpcb.com/partdetail/C275471; ComponentLink3Description: LCSC Part URL; ComponentLink3URL: https://lcsc.com/product-detail/Ferrite-Beads_TDK-TDK-MMZ2012S800AT000_C275471.html
footprint FB-0805 (0805 (2012M) Ferrite)
pins: 1, 2

## MMZ2012Y102BT000
designator FB?  Impedance @ Frequency: 1kΩ@100MHz
Ferrite, 1kΩ@100MHz, ±25%, 300mΩ, 500mA, SMD 0805; Manufacturer: TDK; Manufacturer Part Number: MMZ2012Y102BT000; Package Size: 0805; JLCPCB Basic Part: No; JLCPCB Part Number: C76810; Supplier 1: LCSC; Category: Ferrite Beads; Supplier Part Number 1: C76810; Tolerance: ±25%; Rated Current: 500mA; DC Resistance: 300mΩ; RoHS: Yes; ComponentLink1Description: Datasheet; ComponentLink1URL: https://wmsc.lcsc.com/wmsc/upload/file/pdf/v2/lcsc/2304140030_TDK-MMZ2012Y102BT000_C76810.pdf; ComponentLink2Description: JLCPCB Part URL; ComponentLink2URL: https://jlcpcb.com/partdetail/C76810; ComponentLink3Description: LCSC Part URL; ComponentLink3URL: https://lcsc.com/product-detail/Ferrite-Beads_TDK-TDK-MMZ2012Y102BT000_C76810.html
footprint FB-0805 (0805 (2012M) Ferrite)
pins: 1, 2

## MMZ2012Y121BTD25
designator FB?  Impedance @ Frequency: 120Ω@100MHz
Ferrite, 120Ω@100MHz, ±25%, 120mΩ, 800mA, SMD 0805; Manufacturer: TDK; Manufacturer Part Number: MMZ2012Y121BTD25; Package Size: 0805; JLCPCB Basic Part: No; JLCPCB Part Number: C435254; Supplier 1: LCSC; Category: Ferrite Beads; Supplier Part Number 1: C435254; Tolerance: ±25%; Rated Current: 800mA; DC Resistance: 120mΩ; RoHS: Yes; ComponentLink1Description: Datasheet; ComponentLink1URL: https://wmsc.lcsc.com/wmsc/upload/file/pdf/v2/lcsc/1912111437_TDK-MMZ2012Y121BTD25_C435254.pdf; ComponentLink2Description: JLCPCB Part URL; ComponentLink2URL: https://jlcpcb.com/partdetail/C435254; ComponentLink3Description: LCSC Part URL; ComponentLink3URL: https://lcsc.com/product-detail/Ferrite-Beads_TDK-TDK-MMZ2012Y121BTD25_C435254.html
footprint FB-0805 (0805 (2012M) Ferrite)
pins: 1, 2